# EAGLE library part VNH3SP30 (library isystems)
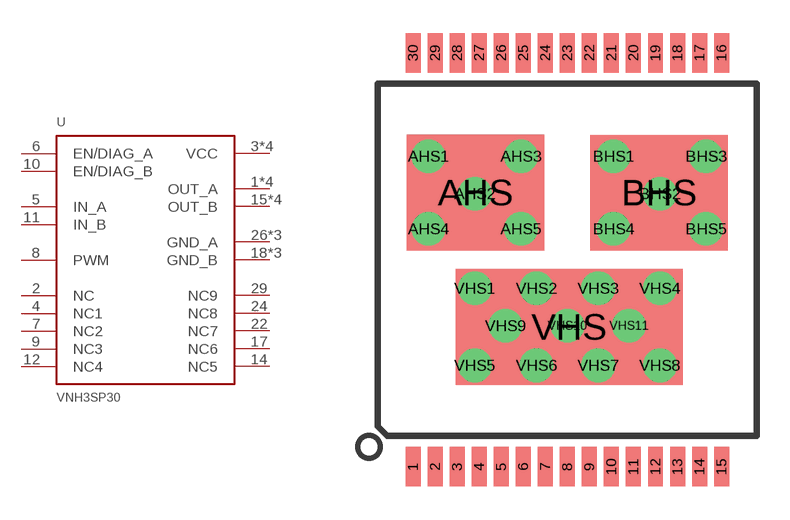
[diagram p21: symbol with the pads of MULTIPOWER_SO-30; footprint MULTIPOWER_SO-30]

Designator prefix U

## VNH3SP30  [MULTIPOWER_SO-30]
1  OUT_A
2  NC
3  VCC
4  NC1
5  IN_A
6  EN/DIAG_A
7  NC2
8  PWM
9  NC3
10  EN/DIAG_B
11  IN_B
12  NC4
13  VCC
14  NC5
15  OUT_B
16  OUT_B
17  NC6
18  GND_B
19  GND_B
20  GND_B
21  OUT_B
22  NC7
23  VCC
24  NC8
25  OUT_A
26  GND_A
27  GND_A
28  GND_A
29  NC9
30  OUT_A
AHS  OUT_A
BHS  OUT_B
VHS  VCC

## Footprint MULTIPOWER_SO-30 (pad centres in mm)
smd 0.68 x 1.8: 1 -7,-9.4; 2 -6,-9.4; 3 -5,-9.4; 4 -4,-9.4; 5 -3,-9.4; 6 -2,-9.4; 7 -1,-9.4; 8 0,-9.4; 9 1,-9.4; 10 2,-9.4; 11 3,-9.4; 12 4,-9.4; 13 5,-9.4; 14 6,-9.4; 15 7,-9.4; 16 7,9.4; 17 6,9.4; 18 5,9.4; 19 4,9.4; 20 3,9.4; 21 2,9.4; 22 1,9.4; 23 0,9.4; 24 -1,9.4; 25 -2,9.4; 26 -3,9.4; 27 -4,9.4; 28 -5,9.4; 29 -6,9.4; 30 -7,9.4
smd 6.23 x 5.25: AHS -4.173,3.049; BHS 4.163,3.047
drill 1 pad 1.524: AHS1 -6.3,4.7; AHS2 -4.2,3; AHS3 -2.1,4.7; AHS4 -6.3,1.4; AHS5 -2.1,1.4; BHS1 2.1,4.7; BHS2 4.2,3; BHS3 6.3,4.7; BHS4 2.1,1.4; BHS5 6.3,1.4; VHS1 -4.2,-1.3; VHS2 -1.4,-1.3; VHS3 1.4,-1.3; VHS4 4.2,-1.3; VHS5 -4.2,-4.8; VHS6 -1.4,-4.8; VHS7 1.4,-4.8; VHS8 4.2,-4.8; VHS9 -2.8,-3; VHS10 0,-3; VHS11 2.8,-3
smd 10.3 x 5.25: VHS 0.075,-3.055